# Altium footprint library Passive_Old.PcbLib: 221 footprints (part 8 of 14)
Each footprint in its own frame and in the unit in brackets; x right, y up, seen from the top. Pads: shape width x height; smd on the part's side, far side on the other; paste and mask are expansions set on the pad; w line width, h text height; cw(c..) or ccw(c..) is an arc to the next point about the centre after c.
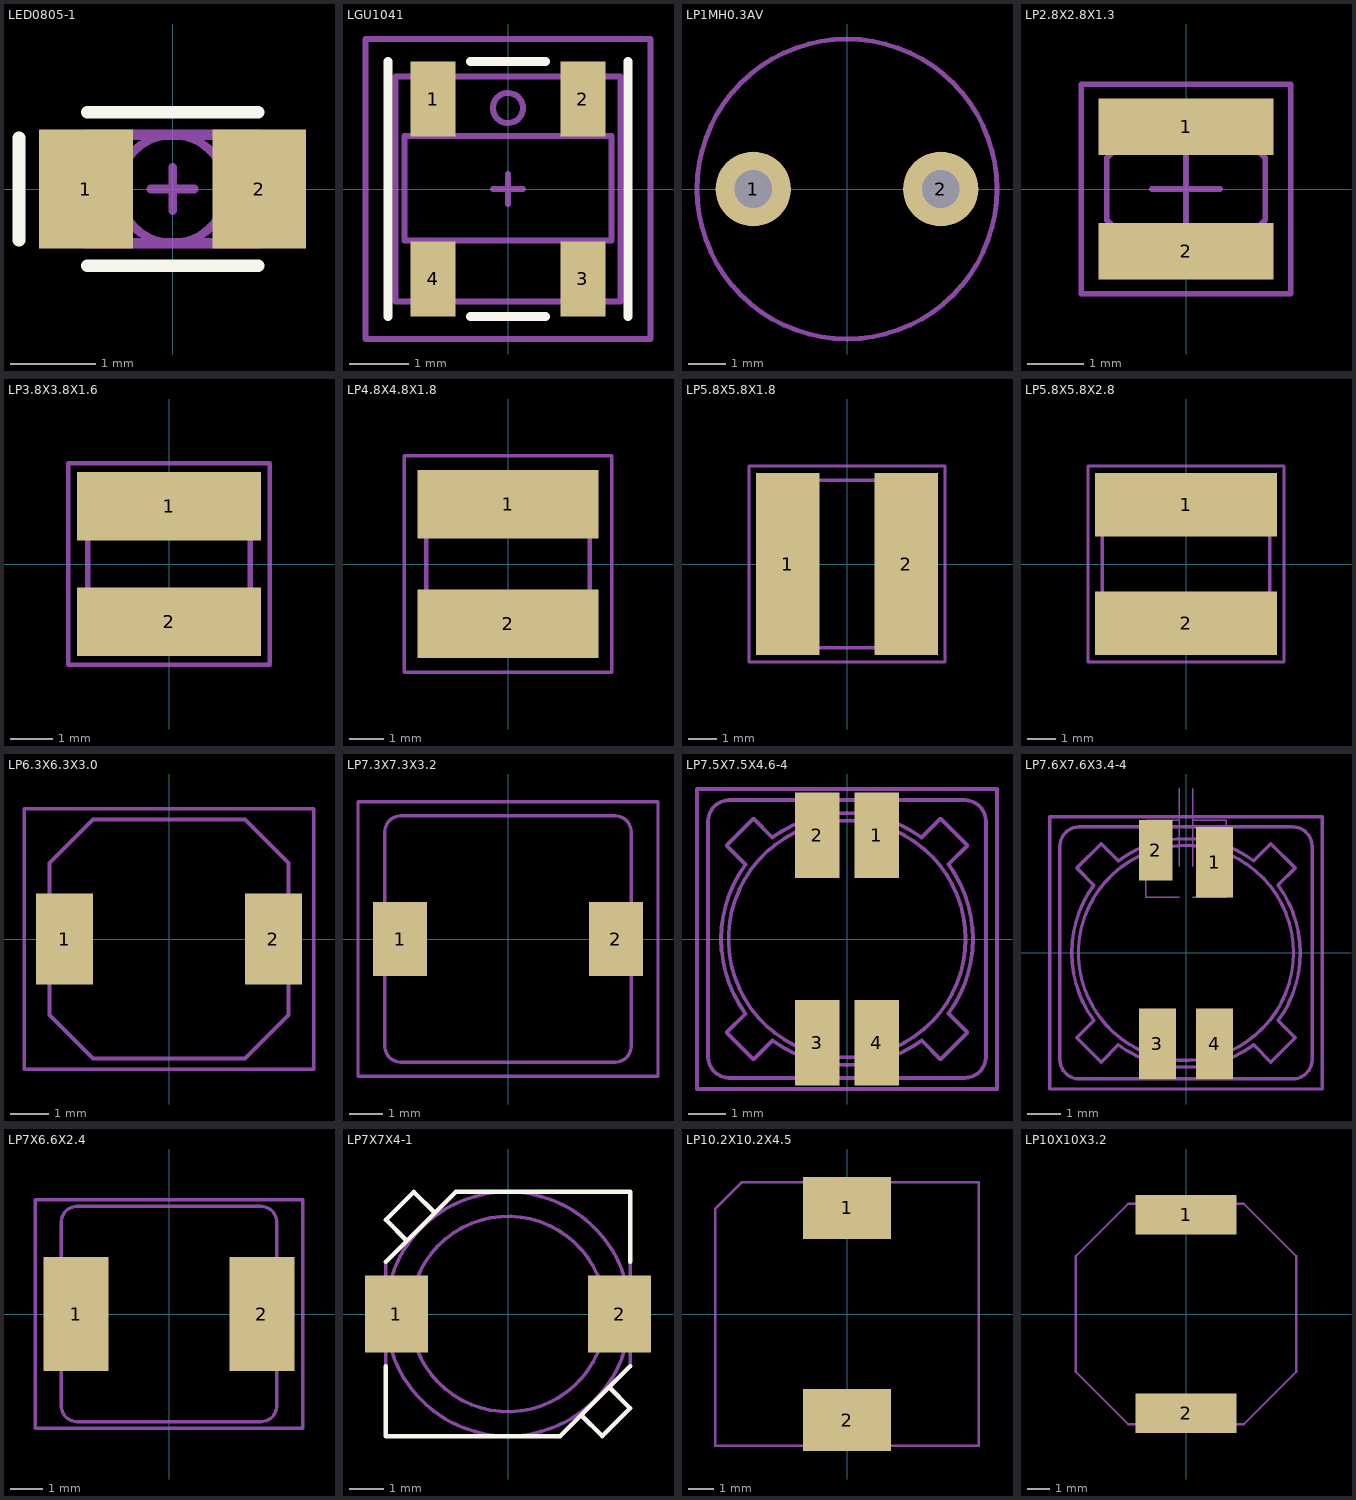
[diagram p7: the footprints below, top view; thin cyan lines are the x and y axes]

## LED0805-1 [mm] "LED 0805 2X1.25mm"
height 1.1
pads (2):
  rect 1.1x1.4 smd: 1(-1.016,0) 2(1.016,0)
Top Overlay:
  lines w0.15: -1.8,-0.6 -1.8,0.6 ; -1,-0.9 1,-0.9 ; -1,0.9 1,0.9
Mechanical 13:
  circle w0.1: c0,0 r0.635
  lines w0.102: -0.9,0.635 -0.9,-0.635 -0.8,-0.635 -0.8,0.635 -0.7,0.635 -0.7,-0.635
  lines w0.127: -1.016,-0.635 1.016,-0.635 1.016,0.635 -1.016,0.635 -1.016,-0.635
Mechanical 15:
  lines w0.1: -0.254,0 0.254,0 ; 0,-0.254 0,0.254
3D body: height 0.7, standoff 0, extent -1.016,-0.635 1.016,0.635

## LGU1041 [mil] "RF Choke 3.81x3.81mm 4pin"
height 150
pads (4):
  rect 30x50 smd: 1(-50,60) 2(50,60) 3(50,-60) 4(-50,-60)
Top Overlay:
  lines w5.91: -80,-85 -80,85 ; -25,-85 25,-85 ; -25,85 25,85 ; 80,-85 80,85
Mechanical 13:
  circle w4: c0,54 r10
  lines w4: -75,-75 -75,75 75,75 75,-75 -75,-75 ; -68.9,-34.45 68.9,-34.45 68.9,35.43 -68.9,35.43 -68.9,-34.45
Mechanical 15:
  lines w4: -10,0 10,0 ; 0,-10 0,10 ; -95,-100 95,-100 95,100 -95,100 -95,-100
3D body: height 74.8, standoff 66.93, extent -45.5,-62.23 45.5,63.21
3D body: height 106.3, standoff 98.43, extent -45.5,-62.23 45.5,63.21
3D body: height 59.06, standoff 51.18, extent -45.5,-62.23 45.5,63.21
3D body: height 122.05, standoff 114.17, extent -45.5,-62.23 45.5,63.21
3D body: height 90.55, standoff 82.68, extent -45.5,-62.23 45.5,63.21
3D body: height 23.62, standoff 0, extent -75,-75 75,75
3D body: height 149.61, standoff 129.92, extent -68.9,-34.45 68.9,34.45
3D body: height 43.31, standoff 23.62, extent -68.9,-34.45 68.9,34.45
3D body: height 129.92, standoff 43.31, extent -68.9,-34.45 -49.21,35.43
3D body: height 129.92, standoff 43.31, extent -9.84,-34.45 9.84,35.43
3D body: height 129.92, standoff 43.31, extent 49.21,-34.45 68.9,35.43
3D body: height 24.02, standoff 23.62, extent -10.04,44.1 10.04,64.17

## LP1MH0.3AV [mm]
height 11
pads (2):
  round 2 hole 1: 1(-2.5,0) 2(2.5,0)
Mechanical 13:
  circle w0.127: c0,0 r4
3D body: height 1, standoff -3, extent 2.151,-0.349 2.849,0.35
3D body: height 1, standoff -3, extent -2.849,-0.35 -2.151,0.349
3D body: height 10, standoff 9, extent -4,-4 3.968,3.984
3D body: height 9, standoff 3, extent -3.8,-3.8 3.77,3.785
3D body: height 3, standoff 1, extent -4,-4 3.968,3.984
3D body: height 2, standoff 0, extent -1.7,1.6 1.7,3.9
3D body: height 2, standoff 0, extent -1.7,-3.9 1.7,-1.6

## LP2.8X2.8X1.3 [mm] "SMD Power inductor 2.8x2.8x1.3mm shielded"
height 1.3
pads (2):
  rect 3.1x1 smd: 1(0,1.1) 2(0,-1.1)
Mechanical 13:
  lines w0.1: -1.4,-0.55 -0.55,-1.4 0.55,-1.4 1.4,-0.55 1.4,-0.1 1.4,0.55 0.55,1.4 -0.55,1.4 -1.4,0.55 -1.4,-0.55
Mechanical 15:
  lines w0.1: -0.6,0 0.6,0 ; 0,-0.6 0,0.6
  lines w0.102: -1.85,-1.85 1.85,-1.85 1.85,1.85 -1.85,1.85 -1.85,-1.85
3D body: height 1.35, standoff 0.2, extent -1.067,-1.073 1.075,1.073
3D body: height 0.2, standoff 0, extent -1.4,-1.4 1.4,-0.55
3D body: height 0.2, standoff 0, extent -1.4,0.55 1.4,1.4
3D body: height 1.35, standoff 0.2, extent -1.4,-1.4 1.4,1.4

## LP3.8X3.8X1.6 [mm] "SMD Power inductor 3.8x3.8x1.6mm shielded"
height 1.8
pads (2):
  rect 4.3x1.6 smd: 1(0,1.35) 2(0,-1.35)
Mechanical 13:
  lines w0.127: -1.9,-1.6 ccw(c-1.6,-1.6) -1.6,-1.9 1.6,-1.9 ccw(c1.6,-1.6) 1.9,-1.6 1.9,1.6 ccw(c1.6,1.6) 1.6,1.9 -1.6,1.9 ccw(c-1.6,1.6) -1.9,1.6 -1.9,-1.6
Mechanical 15:
  lines w0.102: -2.35,-2.35 2.35,-2.35 2.35,2.35 -2.35,2.35 -2.35,-2.35
3D body: height 1.65, standoff 0.2, extent -1.906,-1.906 1.906,1.906
3D body: height 1.66, standoff 1, extent -1.311,-1.311 1.311,1.311
3D body: height 0.2, standoff 0, extent -1.906,0.6 1.906,1.906
3D body: height 0.2, standoff 0, extent -1.906,-1.906 1.906,-0.6

## LP4.8X4.8X1.8 [mm] "SMD Power inductor 4.8x4.8x1.8mm shielded"
height 1.8
pads (2):
  rect 5.3x2 smd: 1(0,1.75) 2(0,-1.75)
Mechanical 13:
  lines w0.127: -2.4,2.032 -2.4,-2.032 ccw(c-2.04,-2.032) -2.04,-2.392 ; -2.392,2.04 cw(c-2.032,2.04) -2.032,2.4 2.032,2.4 ; -2.032,-2.4 2.032,-2.4 ccw(c2.032,-2.04) 2.392,-2.04 ; 2.04,2.392 cw(c2.04,2.032) 2.4,2.032 2.4,-2.032
Mechanical 15:
  lines w0.102: -3.048,-3.175 -3.048,3.175 3.048,3.175 3.048,-3.175 -3.048,-3.175
3D body: height 1.81, standoff 1.8, extent -1.793,-1.803 1.793,1.789
3D body: height 1.8, standoff 0, extent -2.407,-2.407 2.407,2.407

## LP5.8X5.8X1.8 [mm] "SMD Power inductor 5.8x5.8x1.8mm shielded"
height 1.8
pads (2):
  rect 2.2x6.3 smd: 1(-2.05,0) 2(2.05,0)
Mechanical 13:
  lines w0.127: -2.9,-2.54 ccw(c-2.54,-2.54) -2.54,-2.9 2.54,-2.9 ccw(c2.54,-2.54) 2.9,-2.54 2.9,2.54 ccw(c2.54,2.54) 2.54,2.9 -2.54,2.9 ccw(c-2.54,2.54) -2.9,2.54 -2.9,-2.54
Mechanical 15:
  lines w0.102: -3.4,-3.4 -3.4,3.4 3.4,3.4 3.4,-3.4 -3.4,-3.4
3D body: height 1.8, standoff 0.2, extent -2.907,-2.907 2.907,2.907
3D body: height 1.81, standoff 1, extent -2.211,-2.211 2.211,2.211
3D body: height 0.2, standoff 0, extent -2.908,-2.908 -1,2.908
3D body: height 0.2, standoff 0, extent 1,-2.908 2.908,2.908

## LP5.8X5.8X2.8 [mm] "SMD Power inductor 5.8x5.8x2.8mm shielded"
height 2.8
pads (2):
  rect 6.3x2.2 smd: 1(0,2.05) 2(0,-2.05)
Mechanical 13:
  lines w0.127: -2.9,-2.54 ccw(c-2.54,-2.54) -2.54,-2.9 2.54,-2.9 ccw(c2.54,-2.54) 2.9,-2.54 2.9,2.54 ccw(c2.54,2.54) 2.54,2.9 -2.54,2.9 ccw(c-2.54,2.54) -2.9,2.54 -2.9,-2.54
Mechanical 15:
  lines w0.102: -3.4,-3.4 3.4,-3.4 3.4,3.4 -3.4,3.4 -3.4,-3.4
3D body: height 2.8, standoff 0.2, extent -2.907,-2.907 2.907,2.907
3D body: height 2.81, standoff 1, extent -2.211,-2.211 2.211,2.211
3D body: height 0.2, standoff 0, extent -2.908,1 2.908,2.908
3D body: height 0.2, standoff 0, extent -2.908,-2.908 2.908,-1

## LP6.3X6.3X3.0 [mm] "SMD Power inductor 6.3x6.3x3.0mm shielded"
height 3
pads (2):
  rect 1.5x2.4 smd: 1(-2.75,0) 2(2.75,0)
Mechanical 13:
  lines w0.102: -3.15,-2 -3.15,2 -2,3.15 2,3.15 3.15,2 3.15,-2 2,-3.15 -2,-3.15 -3.15,-2
Mechanical 15:
  lines w0.102: -3.81,-3.429 -3.81,3.429 3.81,3.429 3.81,-3.429 -3.81,-3.429
3D body: height 2.8, standoff 0, extent -3.15,-3.15 3.15,3.15
3D body: height 3, standoff 2.8, extent -2.159,-2.159 2.224,2.232

## LP7.3X7.3X3.2 [mm] "SMD Power inductor 7.3x7.3x3.2mm shielded"
height 3.2
pads (2):
  rect 1.6x2.2 smd: 1(-3.2,0) 2(3.2,0)
Mechanical 13:
  lines w0.102: -3.65,-3.175 ccw(c-3.175,-3.175) -3.175,-3.65 3.175,-3.65 ccw(c3.175,-3.175) 3.65,-3.175 3.65,3.175 ccw(c3.175,3.175) 3.175,3.65 -3.175,3.65 ccw(c-3.175,3.175) -3.65,3.175 -3.65,-3.175
Mechanical 15:
  lines w0.102: -4.445,-4.064 -4.445,4.064 4.445,4.064 4.445,-4.064 -4.445,-4.064
3D body: height 3.22, standoff 3.21, extent -1.569,1.016 -0.971,1.615
3D body: height 3.2, standoff 0, extent -3.659,-3.659 3.659,3.659
3D body: height 3.21, standoff 3.2, extent -2.49,-2.54 2.49,2.45

## LP7.5X7.5X4.6-4 [mm] "SMD Power inductor 7.3x7.3x4.6mm shielded 4pin dual induct"
height 4.6
pads (4):
  rect 1.2x2.3 smd: 1(0.8,2.8) 2(-0.8,2.8) 3(-0.8,-2.8) 4(0.8,-2.8)
Mechanical 13:
  circle w0.1: c0,0 r3.2
  lines w0.1: -2.75,-2.025 -3.25,-2.525 -2.525,-3.25 -2.013,-2.738 ; -2.739,2.014 ccw(c0,0) -2.738,-2.016 ; -2.738,2.013 -3.25,2.525 -2.525,3.25 -2.025,2.75 ; -2.016,2.738 cw(c0,0) 2.014,2.739 ; -2.014,-2.739 ccw(c0,0) 2.016,-2.738 ; 2.013,2.738 2.525,3.25 3.25,2.525 2.75,2.025 ; 2.025,-2.75 2.525,-3.25 3.25,-2.525 2.738,-2.013 ; 2.738,2.016 cw(c0,0) 2.739,-2.014
  lines w0.102: -3.75,-3.2 -3.75,3.175 cw(c-3.175,3.175) -3.175,3.75 3.175,3.75 cw(c3.175,3.175) 3.75,3.175 3.75,-3.175 cw(c3.175,-3.175) 3.175,-3.75 -3.175,-3.75 cw(c-3.175,-3.175) -3.75,-3.175
Mechanical 15:
  lines w0.102: -4.05,-4.05 -4.05,4.05 4.05,4.05 4.05,-4.05 -4.05,-4.05
3D body: height 4.5, standoff 0.7, extent -3.761,0 0,3.761
3D body: height 4.5, standoff 0.7, extent -3.761,-3.761 0,0
3D body: height 4.5, standoff 0.7, extent 0,-3.761 3.761,0
3D body: height 4.5, standoff 0.7, extent 0,0 3.761,3.761
3D body: height 4.6, standoff 3.6, extent -3.2,-3.2 3.175,3.187
3D body: height 4.3, standoff 0.1, extent -3.4,-3.4 3.4,3.4
3D body: height 0.2, standoff 0, extent -1.15,1.9 -0.45,3.5
3D body: height 0.2, standoff 0, extent 0.45,1.9 1.15,3.5
3D body: height 0.2, standoff 0, extent 0.45,-3.5 1.15,-1.9
3D body: height 0.2, standoff 0, extent -1.15,-3.5 -0.45,-1.9
3D body: height 4.61, standoff 4.6, extent 1.5,1.5 2.098,2.099

## LP7.6X7.6X3.4-4 [mm] "SMD Power inductor 7.3x7.3x3.4mm shielded 4pin dual induct"
height 3.4
pads (4):
  rect 1.1x2.1 smd: 1(0.85,2.7) 3(-0.85,-2.7) 4(0.85,-2.7)
  rect 1x1.8 smd: 2(-0.9,3.05)
Mechanical 13:
  circle w0.1: c0,0 r3.2
  lines w0.1: -2.75,-2.025 -3.25,-2.525 -2.525,-3.25 -2.013,-2.738 ; -2.739,2.014 ccw(c0,0) -2.738,-2.016 ; -2.738,2.013 -3.25,2.525 -2.525,3.25 -2.025,2.75 ; -2.016,2.738 cw(c0,0) 2.014,2.739 ; -2.014,-2.739 ccw(c0,0) 2.016,-2.738 ; 2.013,2.738 2.525,3.25 3.25,2.525 2.75,2.025 ; 2.025,-2.75 2.525,-3.25 3.25,-2.525 2.738,-2.013 ; 2.738,2.016 cw(c0,0) 2.739,-2.014
  lines w0.102: -3.75,-3.2 -3.75,3.175 cw(c-3.175,3.175) -3.175,3.75 3.175,3.75 cw(c3.175,3.175) 3.75,3.175 3.75,-3.175 cw(c3.175,-3.175) 3.175,-3.75 -3.175,-3.75 cw(c-3.175,-3.175) -3.75,-3.175
Mechanical 15:
  lines w0.05: -0.2,1.65 -1.2,1.65 -1.2,3.95 -0.2,3.95 ; -0.2,2.575 -0.2,4.875 ; 0.2,1.65 1.2,1.65 1.2,3.95 0.2,3.95 ; 0.2,2.575 0.2,4.875
  lines w0.102: -4.05,-4.05 -4.05,4.05 4.05,4.05 4.05,-4.05 -4.05,-4.05
3D body: height 4.5, standoff 0.7, extent -3.761,0 0,3.761
3D body: height 4.5, standoff 0.7, extent -3.761,-3.761 0,0
3D body: height 4.5, standoff 0.7, extent 0,-3.761 3.761,0
3D body: height 4.5, standoff 0.7, extent 0,0 3.761,3.761
3D body: height 4.6, standoff 3.6, extent -3.2,-3.2 3.175,3.187
3D body: height 4.3, standoff 0.1, extent -3.4,-3.4 3.4,3.4
3D body: height 0.2, standoff 0, extent -1.15,1.9 -0.45,3.5
3D body: height 0.2, standoff 0, extent 0.45,1.9 1.15,3.5
3D body: height 0.2, standoff 0, extent 0.45,-3.5 1.15,-1.9
3D body: height 0.2, standoff 0, extent -1.15,-3.5 -0.45,-1.9
3D body: height 4.61, standoff 4.6, extent 1.5,1.5 2.098,2.099

## LP7X6.6X2.4 [mm] "SMD Power inductor 7x6.5x2.4mm shielded"
height 2.4
pads (2):
  rect 2x3.5 smd: 1(-2.85,0) 2(2.85,0)
Mechanical 13:
  lines w0.1: -3.3,-1.6 -3.5,-1.6 -3.5,1.6 -3.3,1.6 ; 3.3,-1.6 3.5,-1.6 ; 3.3,1.6 3.3,1.6 3.5,1.6 3.5,-1.6 ; 3.5,-1.6 3.5,-1.6
  lines w0.102: -3.3,-2.825 ccw(c-2.825,-2.825) -2.825,-3.3 2.825,-3.3 ccw(c2.825,-2.825) 3.3,-2.825 3.3,2.825 ccw(c2.825,2.825) 2.825,3.3 -2.825,3.3 ccw(c-2.825,2.825) -3.3,2.825 -3.3,-2.825
Mechanical 15:
  lines w0.102: -4.1,-3.5 -4.1,3.5 4.1,3.5 4.1,-3.5 -4.1,-3.5
3D body: height 2.4, standoff 0.2, extent -3.309,-3.309 3.309,3.309
3D body: height 1.9, standoff 0, extent 2.3,-1.6 3.5,1.6
3D body: height 1.9, standoff 0, extent -3.5,-1.6 -2.3,1.6

## LP7X7X4-1 [mm] "Power inductor 7x7x4mm"
pads (2):
  rect 1.8x2.2 smd: 1(-3.2,0) 2(3.2,0)
Top Overlay:
  lines w0.127: -3.5,-1.5 -3.5,-3.5 1.5,-3.5 3.5,-1.5 ; -3.5,1.5 -1.5,3.5 3.5,3.5 3.5,1.5 ; -2.1,2.9 -2.7,3.5 ; 2.1,-2.9 2.7,-3.5 3.5,-2.7 2.9,-2.1 ; -2.9,2.1 -2.9,2.1 ; -2.9,2.1 -3.5,2.7 -2.7,3.5 ; -2.7,3.5 -2.7,3.5
Mechanical 13:
  circle w0.102: c0,0 r2.8
  circle w0.102: c0,0 r3.501
  lines w0.102: -2.9,2.1 -3.5,2.7 ; 2.9,-2.1 3.5,-2.7 ; -3.5,2.7 -3.5,2.7 ; -3.5,2.7 -2.7,3.5 -2.1,2.9 ; -2.1,2.9 -2.1,2.9 ; 2.1,-2.9 2.1,-2.9 ; 2.1,-2.9 2.7,-3.5 3.5,-2.7 ; 3.5,-2.7 3.5,-2.7 ; -3.5,-3.5 1.5,-3.5 3.5,-1.5 3.5,3.5 -1.5,3.5 -3.5,1.5 -3.5,-3.5
3D body: height 4, standoff 0, extent -3.5,-3.5 3.5,3.5
3D body: height 4.02, standoff 3.02, extent -2.695,-2.679 2.695,2.7
3D body: height 4.01, standoff 3.01, extent -2.944,-2.975 3.044,3.001
3D body: height 2, standoff 0, extent 3.5,-1 3.7,1
3D body: height 2, standoff 0, extent -3.7,-1 -3.5,1

## LP10.2X10.2X4.5 [mm] "Power inductor 10.2x10.2x4.5mm"
height 4.5
pads (2):
  rect 3.4x2.4 smd: 1(0,4.1) 2(0,-4.1)
Mechanical 13:
  lines w0.102: -5.1,-5.1 -5.1,4.064 -4.064,5.1 5.1,5.1 5.1,-5.1 -5.1,-5.1
3D body: height 4.52, standoff 4.5, extent -2.012,-2.023 -1.016,-1.025
3D body: height 4.51, standoff 4.5, extent -2.997,-2.972 2.979,3.016
3D body: height 4.5, standoff 0, extent -5.1,-5.1 5.1,5.1

## LP10X10X3.2 [mm] "Power inductor 10x10x3.2mm"
height 3.2
pads (2):
  rect 4.6x1.8 smd: 1(0,4.5) 2(0,-4.5)
Mechanical 13:
  lines w0.102: -5,-2.62 -2.62,-5 2.62,-5 5,-2.62 5,2.62 2.62,5 -2.62,5 -5,2.62 -5,-2.62
3D body: height 3.8, standoff 0, extent -5,-5 5,5
3D body: height 3.81, standoff 3.8, extent -2.997,-2.972 2.979,3.016
3D body: height 3.82, standoff 3.8, extent -0.483,1.702 0.513,2.7